# Altium schematic symbol library ИНС-1.SchLib: 1 symbol
Pins are listed as number, name and electrical type; pins without a type are passive.

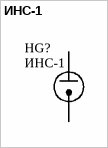
[diagram p0: symbol ИНС-1]

## ИНС-1
designator HG?
footprint ИНС-1
pins: 1 21, 2